# Altium footprint library resistor.PCBLIB: 427 footprints (part 25 of 27)
Each footprint in its own frame and in the unit in brackets; x right, y up, seen from the top. Pads: shape width x height; smd on the part's side, far side on the other; paste and mask are expansions set on the pad; w line width, h text height; cw(c..) or ccw(c..) is an arc to the next point about the centre after c.
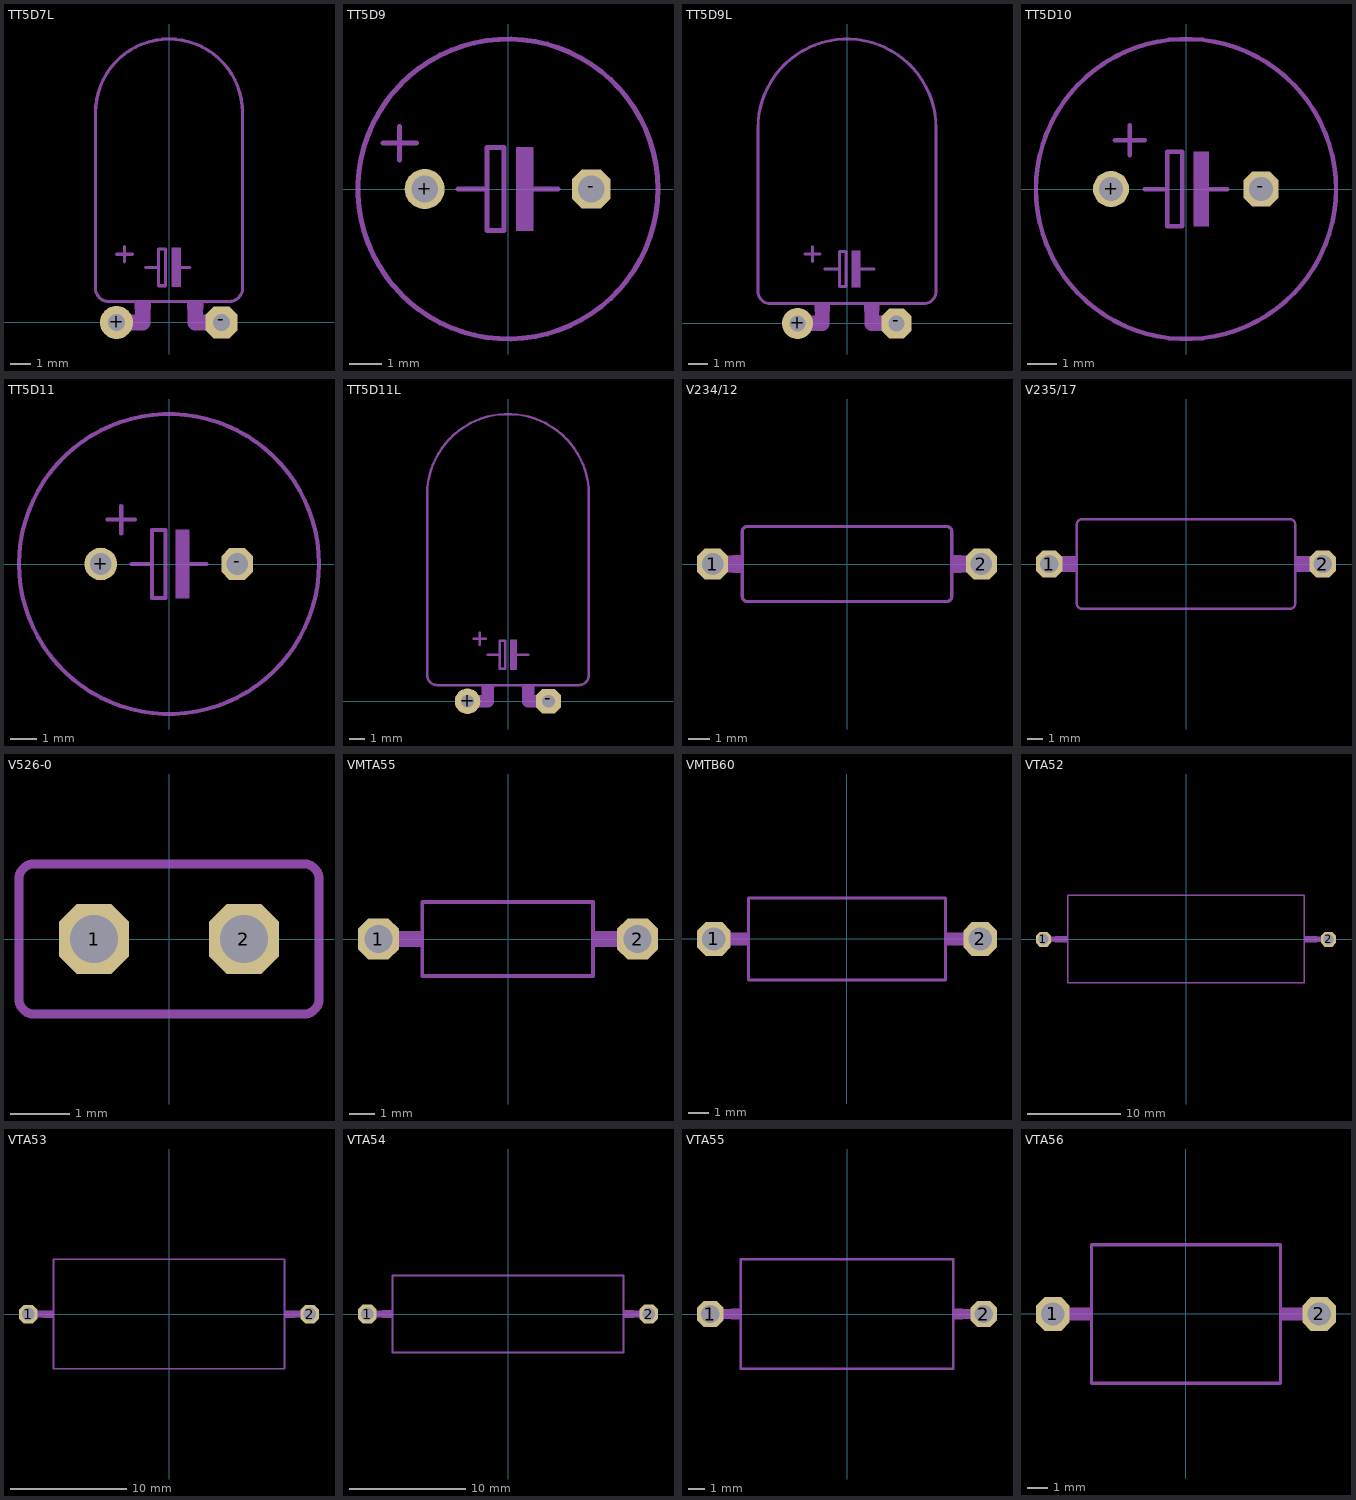
[diagram p24: the footprints below, top view; thin cyan lines are the x and y axes]

## TT5D7L [mil]
pads (2):
  round 63 / inner round 60 / far side round 63 hole 32: +(-100,0)
  oct 61x61 / inner oct 60x60 / far side oct 61x61 hole 32: -(100,0)
Mechanical 8:
  region: 65,-15 65,15 100,15 100,-15
  region: -100,-15 -100,15 -65,15 -65,-15
  lines w30: -60,0 -50,0 ; 50,0 60,0
Mechanical 22:
  region: -65,25 -65,40 -35,40 -35,25
  region: 35,25 35,40 65,40 65,25
  region: 5,68 5,142 22,142 22,68
  lines w6: -100,130 -70,130 ; -85,115 -85,145 ; -45,105 -20,105 ; 20,105 40,105 ; -20,105 -20,70 -7,70 -7,140 -20,140 -20,105 ; -140,65 -140,400 cw(c0,400) 140,400 140,65 cw(c115,65) 115,40 -115,40 cw(c-115,65) -140,65
  lines w30: -50,0 -50,25 ; 50,0 50,25

## TT5D9 [mil]
pads (2):
  round 48 / inner round 60 / far side round 48 hole 32: +(-100,0)
  oct 46.48x46.48 / inner oct 60x60 / far side oct 46.48x46.48 hole 32: -(100,0)
Mechanical 22:
  circle w6: c0,0 r180
  region: 10,-50 10,50 30,50 30,-50
  lines w6: -150,55 -110,55 ; -130,35 -130,75 ; -60,0 -25,0 ; 25,0 60,0 ; -25,0 -25,-50 -5,-50 -5,50 -25,50 -25,0

## TT5D9L [mil]
pads (2):
  round 63 / inner round 60 / far side round 63 hole 32: +(-100,0)
  oct 61x61 / inner oct 60x60 / far side oct 61x61 hole 32: -(100,0)
Mechanical 8:
  region: 65,-15 65,15 100,15 100,-15
  region: -100,-15 -100,15 -65,15 -65,-15
  lines w30: -60,0 -50,0 ; 50,0 60,0
Mechanical 22:
  region: -65,25 -65,40 -35,40 -35,25
  region: 35,25 35,40 65,40 65,25
  region: 10,73 10,147 27,147 27,73
  lines w6: -85,140 -55,140 ; -70,125 -70,155 ; -45,110 -15,110 ; 25,110 55,110 ; -15,110 -15,75 -2,75 -2,145 -15,145 -15,110 ; -180,65 -180,395 cw(c0,395) 180,395 180,65 cw(c155,65) 155,40 -155,40 cw(c-155,65) -180,65
  lines w30: -50,0 -50,25 ; 50,0 50,25

## TT5D10 [mil]
pads (2):
  round 48 / inner round 60 / far side round 48 hole 32: +(-100,0)
  oct 46.48x46.48 / inner oct 60x60 / far side oct 46.48x46.48 hole 32: -(100,0)
Mechanical 22:
  circle w6: c0,0 r200
  region: 10,-50 10,50 30,50 30,-50
  lines w6: -95,65 -55,65 ; -75,45 -75,85 ; -55,0 -25,0 ; 25,0 55,0 ; -25,0 -25,-50 -5,-50 -5,50 -25,50 -25,0

## TT5D11 [mil]
pads (2):
  round 48 / inner round 60 / far side round 48 hole 32: +(-100,0)
  oct 46.48x46.48 / inner oct 60x60 / far side oct 46.48x46.48 hole 32: -(100,0)
Mechanical 22:
  circle w6: c0,0 r220
  region: 10,-50 10,50 30,50 30,-50
  lines w6: -90,65 -50,65 ; -70,45 -70,85 ; -55,0 -25,0 ; 25,0 55,0 ; -25,0 -25,-50 -5,-50 -5,50 -25,50 -25,0

## TT5D11L [mil]
pads (2):
  round 63 / inner round 60 / far side round 63 hole 32: +(-100,0)
  oct 61x61 / inner oct 60x60 / far side oct 61x61 hole 32: -(100,0)
Mechanical 8:
  region: 65,-15 65,15 100,15 100,-15
  region: -100,-15 -100,15 -65,15 -65,-15
  lines w30: -60,0 -50,0 ; 50,0 60,0
Mechanical 22:
  region: -65,25 -65,40 -35,40 -35,25
  region: 35,25 35,40 65,40 65,25
  region: 5,78 5,152 22,152 22,78
  lines w6: -85,155 -55,155 ; -70,140 -70,170 ; -50,115 -20,115 ; 20,115 50,115 ; -20,115 -20,80 -7,80 -7,150 -20,150 -20,115 ; -200,65 -200,510 cw(c0,510) 200,510 200,65 cw(c175,65) 175,40 -175,40 cw(c-175,65) -200,65
  lines w30: -50,0 -50,25 ; 50,0 50,25

## V234/12 [mil]
pads (2):
  oct 58.09x58.09 / inner oct 60x60 / far side oct 58.09x58.09 hole 40: 1(-250,0) 2(250,0)
Mechanical 8:
  lines w32: -250,0 -215,0 ; 215,0 250,0
Mechanical 22:
  region: 195,-16 195,16 213,16 213,-16
  region: -213,-16 -213,16 -195,16 -195,-16
  lines w6: -195,-60 ccw(c-185,-60) -185,-70 185,-70 ccw(c185,-60) 195,-60 195,60 ccw(c185,60) 185,70 -185,70 ccw(c-185,60) -195,60 -195,-60

## V235/17 [mil]
pads (2):
  oct 68.26x68.26 / inner oct 60x60 / far side oct 68.26x68.26 hole 47: 1(-350,0) 2(350,0)
Mechanical 8:
  lines w40: -350,0 -310,0 ; 310,0 350,0
Mechanical 22:
  region: 280,-20 280,20 305,20 305,-20
  region: -305,-20 -305,20 -280,20 -280,-20
  lines w6: -280,-100 -280,100 cw(c-265,100) -265,115 265,115 cw(c265,100) 280,100 280,-100 cw(c265,-100) 265,-115 -265,-115 cw(c-265,-100) -280,-100

## V526-0 [mil]
pads (2):
  oct 46.48x46.48 / inner oct 60x60 / far side oct 46.48x46.48 hole 32: 1(-50,0) 2(50,0)
Mechanical 22:
  lines w6: -100,-40 ccw(c-90,-40) -90,-50 90,-50 ccw(c90,-40) 100,-40 100,40 ccw(c90,40) 90,50 -90,50 ccw(c-90,40) -100,40 -100,-40

## VMTA55 [mil]
pads (2):
  oct 62.9x62.9 / inner oct 60x60 / far side oct 62.9x62.9 hole 43.31: 1(-200,0) 2(200,0)
Mechanical 8:
  lines w24: -200,0 -167.72,0 ; 166.73,0 200,0
Mechanical 22:
  region: -167.72,-12 -167.72,12 -130.22,12 -130.22,-12
  region: 129.23,-12 129.23,12 166.73,12 166.73,-12
  lines w6: -132.38,-57.09 -132.38,57.09 131.4,57.09 131.4,-57.09 -132.38,-57.09

## VMTB60 [mil]
pads (2):
  oct 62.9x62.9 / inner oct 60x60 / far side oct 62.9x62.9 hole 43.31: 1(-250,0) 2(250,0)
Mechanical 8:
  lines w24: -250,0 -219.88,0 ; 219.88,0 250,0
Mechanical 22:
  region: -219.88,-12 -219.88,12 -182.38,12 -182.38,-12
  region: 182.38,-12 182.38,12 219.88,12 219.88,-12
  lines w6: -184.55,-76.77 -184.55,76.77 184.55,76.77 184.55,-76.77 -184.55,-76.77

## VTA52 [mil]
pads (2):
  oct 62.9x62.9 / inner oct 60x60 / far side oct 62.9x62.9 hole 43.31: 1(-600,0) 2(600,0)
Mechanical 8:
  lines w24: -600,0 -550,0 ; 550,0 600,0
Mechanical 22:
  region: -550,-12 -550,12 -494.78,12 -494.78,-12
  region: 494.78,-12 494.78,12 550,12 550,-12
  lines w6: -496.95,-183.07 -496.95,0.98 -496.95,186.02 496.95,186.02 496.95,0.98 496.95,-183.07 -496.95,-183.07

## VTA53 [mil]
pads (2):
  oct 62.9x62.9 / inner oct 60x60 / far side oct 62.9x62.9 hole 43.31: 1(-475,0) 2(475,0)
Mechanical 8:
  lines w24: -475,0 -425,0 ; 425,0 475,0
Mechanical 22:
  region: -425,-12 -425,12 -387.5,12 -387.5,-12
  region: 387.5,-12 387.5,12 425,12 425,-12
  lines w6: -389.67,-184.06 -389.67,0 -389.67,185.04 389.67,185.04 389.67,0 389.67,-184.06 -389.67,-184.06

## VTA54 [mil]
pads (2):
  oct 62.9x62.9 / inner oct 60x60 / far side oct 62.9x62.9 hole 43.31: 1(-475,0) 2(475,0)
Mechanical 8:
  lines w24: -475,0 -425,0 ; 425,0 475,0
Mechanical 22:
  region: -425,-12 -425,12 -387.5,12 -387.5,-12
  region: 387.5,-12 387.5,12 425,12 425,-12
  lines w6: -389.67,-129.92 -389.67,0 -389.67,129.92 389.67,129.92 389.67,0 389.67,-129.92 -389.67,-129.92

## VTA55 [mil]
pads (2):
  oct 62.9x62.9 / inner oct 60x60 / far side oct 62.9x62.9 hole 43.31: 1(-325,0) 2(325,0)
Mechanical 8:
  lines w24: -325,0 -275,0 ; 275,0 325,0
Mechanical 22:
  region: -275,-12 -275,12 -250,12 -250,-12
  region: 250,-12 250,12 275,12 275,-12
  lines w6: -252.17,-129.92 -252.17,0 -252.17,129.92 252.17,129.92 252.17,0 252.17,-129.92 -252.17,-129.92

## VTA56 [mil]
pads (2):
  oct 62.9x62.9 / inner oct 60x60 / far side oct 62.9x62.9 hole 43.31: 1(-250,0) 2(250,0)
Mechanical 8:
  lines w24: -250,0 -200,0 ; 200,0 250,0
Mechanical 22:
  region: -200,-12 -200,12 -175,12 -175,-12
  region: 175,-12 175,12 200,12 200,-12
  lines w6: -177.17,-129.92 -177.17,0 -177.17,129.92 177.17,129.92 177.17,0 177.17,-129.92 -177.17,-129.92